# EAGLE library part LIS2DH12 (library st-microelectronics)
MEMS Digital Output Motion Sensor
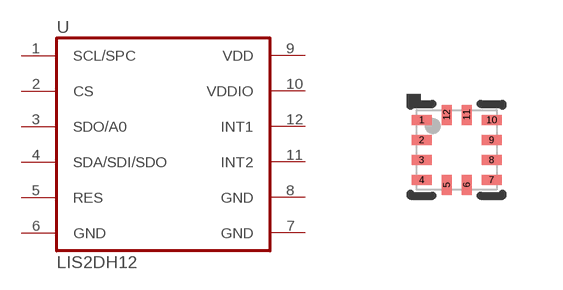
[diagram p39: symbol with the pads of LGA12; footprint LGA12]

Designator prefix U

## LIS2DH12  [LGA12]
1  SCL/SPC
2  CS
3  SDO/A0
4  SDA/SDI/SDO
5  RES  in
6  GND  pwr
7  GND  pwr
8  GND
9  VDD  pwr
10  VDDIO  pwr
11  INT2  out
12  INT1  out

## Footprint LGA12 (pad centres in mm)
LGA-12 body 2x2x1mm
smd 0.5 x 0.25: 1 -0.875,0.75; 2 -0.875,0.25; 3 -0.875,-0.25; 4 -0.875,-0.75; 7 0.875,-0.75; 8 0.875,-0.25; 9 0.875,0.25; 10 0.875,0.75
smd 0.25 x 0.5: 5 -0.25,-0.875; 6 0.25,-0.875; 11 0.25,0.875; 12 -0.25,0.875